# Altium schematic symbol library 1000uF_10V SMD.SchLib: 1 symbol
Pins are listed as number, name and electrical type; pins without a type are passive.

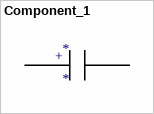
[diagram p0: symbol Component_1]

## Component_1
designator *
footprint CAPAE7053X54M (Aluminum Electrolytic Capacitor, Body 5.30x5.30x5.40mm, IPC Low Density)
pins: 1, 2
text: +